# Altium schematic symbol library Zilog.SchLib: 2 symbols
Pins are listed as number, name and electrical type; pins without a type are passive.

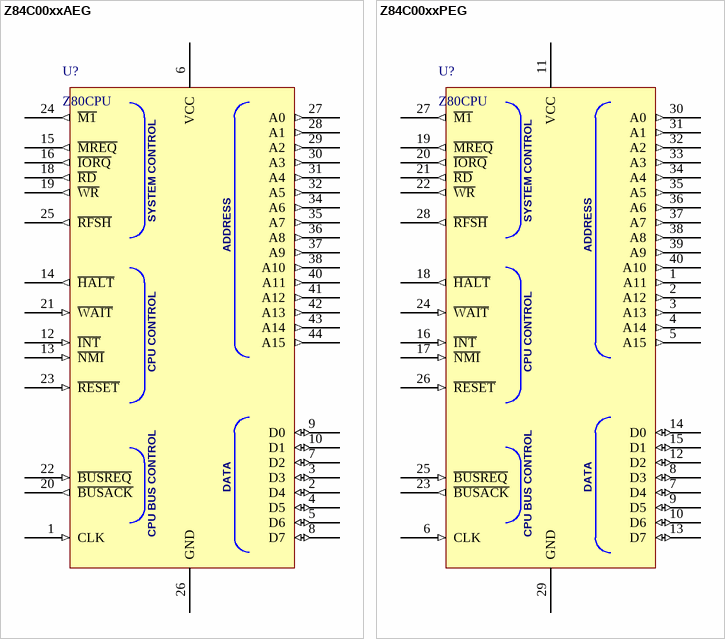
[diagram p0: symbols Z84C00xxAEG to Z84C00xxPEG]

## Z84C00xxAEG
designator U?, comment Z80CPU
Z80 - CPU
footprint Z84C00XXAEG (Z80 - CPU)
pins: 1 CLK (in), 2 D4 (io), 3 D3 (io), 4 D5 (io), 5 D6 (io), 6 VCC (power), 7 D2 (io), 8 D7 (io), 9 D0 (io), 10 D1 (io), 11 NC_0 hidden, 12 ~{INT} (in), 13 ~{NMI} (in), 14 ~{HALT} (out), 15 ~{MREQ} (out), 16 ~{IORQ} (out), 17 NC_1 hidden, 18 ~{RD} (out), 19 ~{WR} (out), 20 ~{BUSACK} (out), 21 ~{WAIT} (in), 22 ~{BUSREQ} (in), 23 ~{RESET} (in), 24 ~{M1} (out), 25 ~{RFSH} (out), 26 GND (power), 27 A0 (out), 28 A1 (out), 29 A2 (out), 30 A3 (out), 31 A4 (out), 32 A5 (out), 33 NC_2 hidden, 34 A6 (out), 35 A7 (out), 36 A8 (out), 37 A9 (out), 38 A10 (out), 39 NC_3 hidden, 40 A11 (out), 41 A12 (out), 42 A13 (out), 43 A14 (out), 44 A15 (out)
text: SYSTEM CONTROL; ADDRESS; CPU CONTROL; DATA; CPU BUS CONTROL

## Z84C00xxPEG
designator U?, comment Z80CPU
Z80 - CPU
footprint Z84C00xxPEG (Z80 - CPU)
pins: 1 A11 (out), 2 A12 (out), 3 A13 (out), 4 A14 (out), 5 A15 (out), 6 CLK (in), 7 D4 (io), 8 D3 (io), 9 D5 (io), 10 D6 (io), 11 VCC (power), 12 D2 (io), 13 D7 (io), 14 D0 (io), 15 D1 (io), 16 ~{INT} (in), 17 ~{NMI} (in), 18 ~{HALT} (out), 19 ~{MREQ} (out), 20 ~{IORQ} (out), 21 ~{RD} (out), 22 ~{WR} (out), 23 ~{BUSACK} (out), 24 ~{WAIT} (in), 25 ~{BUSREQ} (in), 26 ~{RESET} (in), 27 ~{M1} (out), 28 ~{RFSH} (out), 29 GND (power), 30 A0 (out), 31 A1 (out), 32 A2 (out), 33 A3 (out), 34 A4 (out), 35 A5 (out), 36 A6 (out), 37 A7 (out), 38 A8 (out), 39 A9 (out), 40 A10 (out)
text: SYSTEM CONTROL; ADDRESS; CPU CONTROL; DATA; CPU BUS CONTROL